# Altium schematic symbol library THS7530PWP.SchLib: 1 symbol
Pins are listed as number, name and electrical type; pins without a type are passive.

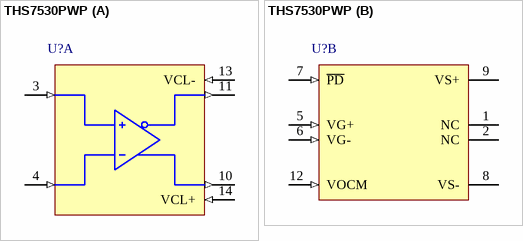
[diagram p0: symbol THS7530PWP]

## THS7530PWP
designator U?
part A pins: 3 VIN+ (in), 4 VIN- (in), 10 VOUT+ (out), 11 VOUT- (out), 13 VCL- (in), 14 VCL+ (in)
part B pins: 1 NC, 2 NC, 5 VG+ (in), 6 VG- (in), 7 ~{PD} (in), 8 VS- (power), 9 VS+ (power), 12 VOCM (in)